# EAGLE library part LCD-MODUL2X8 (library lcd082dip)
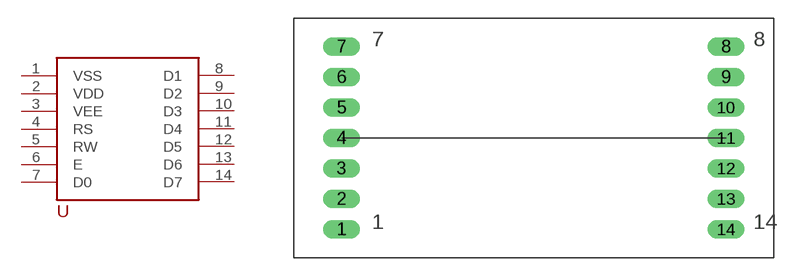
[diagram p0: symbol with the pads of LCD-MODUL2X8; footprint LCD-MODUL2X8]

Designator prefix -

## LCD-MODUL2X8  [LCD-MODUL2X8]
1  VSS
2  VDD
3  VEE
4  RS
5  RW
6  E
7  D0
8  D1
9  D2
10  D3
11  D4
12  D5
13  D6
14  D7

## Footprint LCD-MODUL2X8 (pad centres in mm)
drill 1.016 long: 1 -16.51,-7.62; 2 -16.51,-5.08; 3 -16.51,-2.54; 4 -16.51,0; 5 -16.51,2.54; 6 -16.51,5.08; 7 -16.51,7.62; 8 15.49,7.62; 9 15.49,5.08; 10 15.49,2.54; 11 15.49,0; 12 15.49,-2.54; 13 15.49,-5.08; 14 15.49,-7.62